# Altium footprint library PcbLib1.PcbLib: 20 footprints (part 1 of 2)
Each footprint in its own frame and in the unit in brackets; x right, y up, seen from the top. Pads: shape width x height; smd on the part's side, far side on the other; paste and mask are expansions set on the pad; w line width, h text height; cw(c..) or ccw(c..) is an arc to the next point about the centre after c.
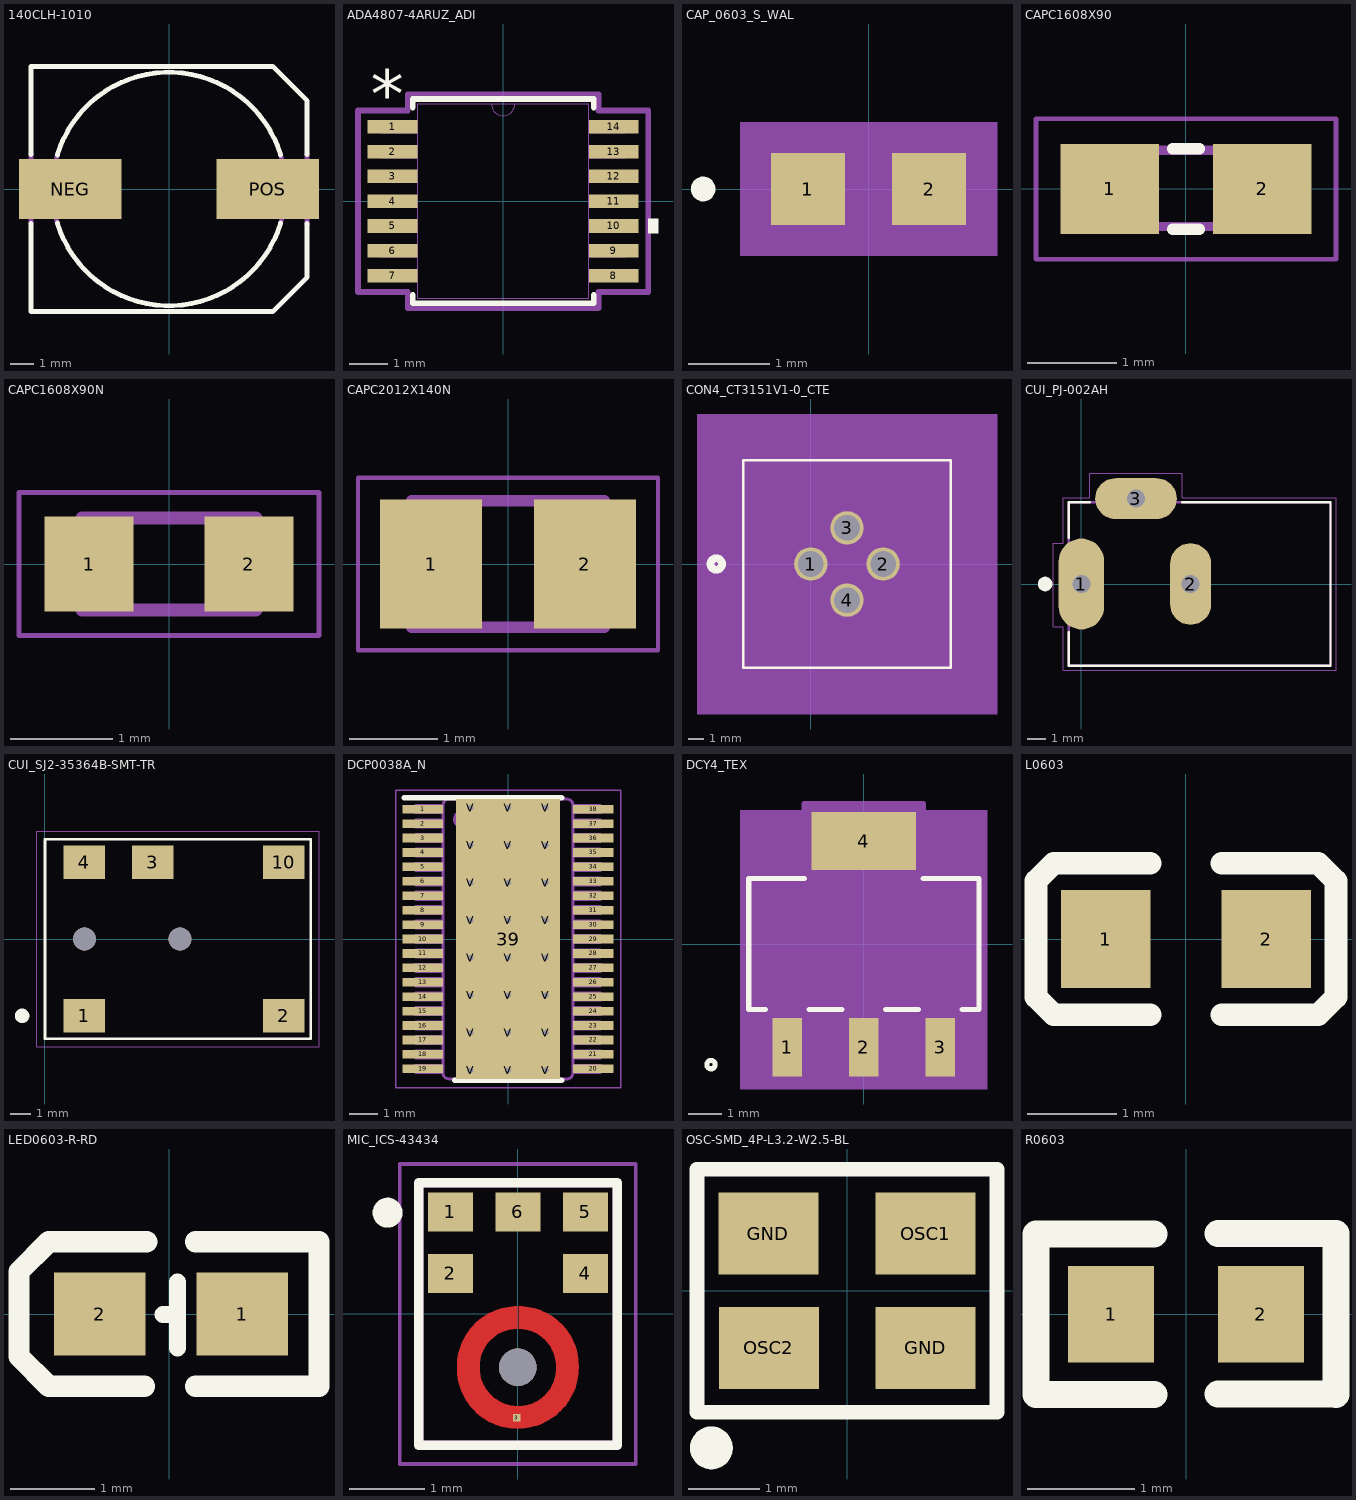
[diagram p0: the footprints below, top view; thin cyan lines are the x and y axes]

## 140CLH-1010 [mm]
pads (2):
  rect 4.3x2.5 smd: NEG(-4.15,0) POS(4.15,0)
Top Overlay:
  lines w0.203: -5.8,-1.45 -5.8,-5.15 4.35,-5.15 5.8,-3.7 5.8,-1.45 ; -5.8,1.45 -5.8,5.15 4.35,5.15 5.8,3.7 5.8,1.45 ; -4.69,-1.434 ccw(c0,0) 4.69,-1.434 ; -4.69,1.434 cw(c0,0) 4.69,1.434
Mechanical 13:
  lines w0.203: -5.8,-1.45 -5.8,1.45 ; -4.69,-1.434 cw(c0,0) -4.69,1.434 ; 4.69,-1.434 ccw(c0,0) 4.69,1.434 ; 5.8,-1.45 5.8,1.45

## ADA4807-4ARUZ_ADI [mil]
pads (14):
  rect 51.48x14 smd paste+0 mask+0: 1(-114.24,76.77) 2(-114.24,51.18) 3(-114.24,25.59) 4(-114.24,0) 5(-114.24,-25.59) 6(-114.24,-51.18) 7(-114.24,-76.77) 8(114.24,-76.77) 9(114.24,-51.18) 10(114.24,-25.59) 11(114.24,0) 12(114.24,25.59) 13(114.24,51.18) 14(114.24,76.77)
Top Overlay:
  region: 149.98,-18.09 159.98,-18.09 159.98,-33.09 149.98,-33.09
  lines w6: -93.5,-96.87 -93.5,-105.5 93.5,-105.5 93.5,-96.87 ; -93.5,96.87 -93.5,105.5 93.5,105.5 93.5,96.87
  text "*" at -136.74,85.77 h50
Mechanical 13:
  lines w0: -12,100.5 ccw(c0,100.5) 12,100.5
  lines w1: -125.98,-82.77 -125.98,-70.77 -88.5,-70.77 -88.5,-82.77 -125.98,-82.77 ; -125.98,-57.18 -125.98,-45.18 -88.5,-45.18 -88.5,-57.18 -125.98,-57.18 ; -125.98,-31.59 -125.98,-19.59 -88.5,-19.59 -88.5,-31.59 -125.98,-31.59 ; -125.98,-6 -125.98,6 -88.5,6 -88.5,-6 -125.98,-6 ; -125.98,19.59 -125.98,31.59 -88.5,31.59 -88.5,19.59 -125.98,19.59 ; -125.98,45.18 -125.98,57.18 -88.5,57.18 -88.5,45.18 -125.98,45.18 ; -125.98,70.77 -125.98,82.77 -88.5,82.77 -88.5,70.77 -125.98,70.77 ; -88.5,-100.5 88.5,-100.5 88.5,100.5 -88.5,100.5 -88.5,-100.5 ; 88.5,-82.77 88.5,-70.77 125.98,-70.77 125.98,-82.77 88.5,-82.77 ; 88.5,-57.18 88.5,-45.18 125.98,-45.18 125.98,-57.18 88.5,-57.18 ; 88.5,-31.59 88.5,-19.59 125.98,-19.59 125.98,-31.59 88.5,-31.59 ; 88.5,-6 88.5,6 125.98,6 125.98,-6 88.5,-6 ; 88.5,19.59 88.5,31.59 125.98,31.59 125.98,19.59 88.5,19.59 ; 88.5,45.18 88.5,57.18 125.98,57.18 125.98,45.18 88.5,45.18 ; 88.5,70.77 88.5,82.77 125.98,82.77 125.98,70.77 88.5,70.77
  text "*" at -86,47.5 h50
Mechanical 15:
  lines w6: -149.98,-93.77 -149.98,93.77 -98.5,93.77 -98.5,110.5 98.5,110.5 98.5,93.77 149.98,93.77 149.98,-93.77 98.5,-93.77 98.5,-110.5 -98.5,-110.5 -98.5,-93.77 -149.98,-93.77
3D body: height 10, standoff 0, extent 0,0 10,10

## CAP_0603_S_WAL [mil]
pads (2):
  rect 36x35 smd paste+0 mask+0: 1(-29.5,0) 2(29.5,0)
Top Overlay:
  circle w6: c-80.5,0 r3
Mechanical 5:
  region: 62.5,-32.5 -62.5,-32.5 -62.5,32.5 62.5,32.5
Mechanical 13:
  circle w0: c-23.5,0 r3
  lines w1: -33.5,-17.5 -33.5,17.5 ; -33.5,-17.5 -11.5,-17.5 -11.5,17.5 -33.5,17.5 ; -33.5,-17.5 33.5,-17.5 ; -33.5,-17.5 -33.5,17.5 ; -33.5,17.5 33.5,17.5 ; 33.5,-17.5 11.5,-17.5 11.5,17.5 33.5,17.5 ; 33.5,-17.5 33.5,17.5 ; 33.5,-17.5 33.5,17.5
Mechanical 15:
  region: 57.5,-27.5 -57.5,-27.5 -57.5,27.5 57.5,27.5
  lines w6: -57.5,-27.5 -57.5,27.5 57.5,27.5 57.5,-27.5 -57.5,-27.5
3D body: height 10, standoff 0, extent 0,0 10,10

## CAPC1608X90 [mm]
pads (2):
  rect 1.1x1 smd: 1(-0.85,0) 2(0.85,0)
Top Overlay:
  lines w0.127: -0.15,-0.45 0.15,-0.45 ; -0.15,0.45 0.15,0.45
Mechanical 13:
  region: 0.83,-0.471 0.331,-0.471 0.331,0.48 0.83,0.48
  region: -0.338,-0.47 -0.839,-0.47 -0.839,0.48 -0.338,0.48
  lines w0.102: -0.356,-0.419 0.356,-0.419 ; -0.356,0.432 0.356,0.432
Mechanical 15:
  lines w0.051: -1.673,-0.783 -1.673,0.783 1.673,0.783 1.673,-0.783 -1.673,-0.783

## CAPC1608X90N [mm]
pads (2):
  rect 0.87x0.93 smd: 1(-0.78,0) 2(0.78,0)
Mechanical 13:
  lines w0.127: -0.85,-0.45 0.85,-0.45 0.85,0.45 -0.85,0.45 -0.85,-0.45
Mechanical 15:
  lines w0.05: -1.465,-0.7 1.465,-0.7 1.465,0.7 -1.465,0.7 -1.465,-0.7

## CAPC2012X140N [mm]
pads (2):
  rect 1.16x1.47 smd: 1(-0.875,0) 2(0.875,0)
Mechanical 13:
  lines w0.127: -1.1,-0.72 -1.1,0.72 1.1,0.72 1.1,-0.72 -1.1,-0.72
Mechanical 15:
  lines w0.05: -1.708,-0.983 -1.708,0.983 1.708,0.983 1.708,-0.983 -1.708,-0.983

## CON4_CT3151V1-0_CTE [mil]
pads (4):
  round 87 hole 67: 1(0,0) 2(188,0) 3(94,94) 4(94,-94)
Top Overlay:
  circle w20: c-246,0 r15
  lines w6: -176,-270 -176,270 364,270 364,-270 -176,-270
Bottom Overlay:
  circle w20: c-246,0 r15
Mechanical 5:
  region: -296,390 484,390 484,-390 -296,-390
Mechanical 7:
  lines w1: -271,0 94,0 ; -271,94 94,94 ; -256,-50 -256,0 ; -256,144 -256,94 ; 0,-188 474,-188 ; 0,365 0,0 474,0 ; 188,0 188,365 ; -256,0 -251,-10 -261,-10 -256,0 ; -256,94 -251,104 -261,104 -256,94 ; 0,350 10,345 10,355 0,350 ; 0,350 188,350 ; 188,350 178,345 178,355 188,350 ; 459,-188 464,-178 454,-178 459,-188 ; 459,-188 459,0 ; 459,0 464,-10 454,-10 459,0
  text "0.188in/4.775mm" at -140.75,370 h25
Mechanical 13:
  circle w20: c0,75 r15
  lines w1: -171,-265 -171,265 359,265 359,-265 -171,-265
Mechanical 15:
  region: 369,275 -181,275 -181,-275 369,-275
  lines w6: -181,-275 369,-275 369,275 -181,275 -181,-275
3D body: height 10, standoff 0, extent 0,0 10,10

## CUI_PJ-002AH [mm]
pads (3):
  oval 2.5x5 hole 1 square: 1(0,0)
  oval 2.25x4.5 hole 1 square: 2(6,0)
  oval 4.5x2.25 hole 1 square: 3(3,4.7)
Top Overlay:
  circle w0.4: c-2,0 r0.2
  lines w0.127: -0.7,-2.65 -0.7,-4.5 13.7,-4.5 13.7,4.5 5.55,4.5 ; -0.7,2.55 -0.7,4.5 0.45,4.5
Mechanical 13:
  lines w0.127: -0.7,-4.5 -0.7,4.5 13.7,4.5 13.7,-4.5 -0.7,-4.5
Mechanical 15:
  lines w0.05: -1.55,-2.35 -1,-2.35 -1,-4.75 14,-4.75 14,4.75 5.55,4.75 5.55,6.1 0.45,6.1 0.45,4.75 -1,4.75 -1,2.25 -1.55,2.25 -1.55,-2.35

## CUI_SJ2-35364B-SMT-TR [mm]
pads (7):
  rect 2x1.6 smd: 1(1.9,-3.7) 2(11.5,-3.7) 3(5.2,3.7) 4(1.9,3.7) 10(11.5,3.7)
  round 1.1 hole 1.1 unplated: ""(1.9,0) ""(6.5,0)
Top Overlay:
  circle w0.4: c-1.1,-3.7 r0.15
  lines w0.127: 0,-4.8 12.8,-4.8 12.8,4.8 0,4.8 0,-4.8
Mechanical 15:
  lines w0.05: -0.4,-5.2 -0.4,5.2 13.2,5.2 13.2,-5.2 -0.4,-5.2

## DCP0038A_N [mm]
pads (63):
  rect 1.4x0.3 smd paste+0 mask+0: 1(-2.95,4.5) 2(-2.95,4) 3(-2.95,3.5) 4(-2.95,3) 5(-2.95,2.5) 6(-2.95,2) 7(-2.95,1.5) 8(-2.95,1) 9(-2.95,0.5) 10(-2.95,0) 11(-2.95,-0.5) 12(-2.95,-1) 13(-2.95,-1.5) 14(-2.95,-2) 15(-2.95,-2.5) 16(-2.95,-3) 17(-2.95,-3.5) 18(-2.95,-4) 19(-2.95,-4.5) 20(2.95,-4.5) 21(2.95,-4) 22(2.95,-3.5) 23(2.95,-3) 24(2.95,-2.5) 25(2.95,-2) 26(2.95,-1.5) 27(2.95,-1) 28(2.95,-0.5) 29(2.95,0) 30(2.95,0.5) 31(2.95,1) 32(2.95,1.5) 33(2.95,2) 34(2.95,2.5) 35(2.95,3) 36(2.95,3.5) 37(2.95,4) 38(2.95,4.5)
  rect 3.6x9.7 smd paste-4.837 mask-4.839: 39(0,0)
  round 0.5 hole 0.203 mask+0: V(-1.3,-4.55) V(-1.3,-3.25) V(-1.3,3.25) V(-1.3,4.55) V(0,-4.55) V(0,-3.25) V(0,-1.95) V(0,-0.65) V(0,0.65) V(0,1.95) V(0,3.25) V(0,4.55) V(1.3,-4.55) V(1.3,-3.25) V(1.3,3.25) V(1.3,4.55)
  round 0.5 hole 0.203 mask-0.152: V(-1.3,-1.95) V(-1.3,-0.65) V(-1.3,0.65) V(-1.3,1.95) V(1.3,-1.95) V(1.3,-0.65) V(1.3,0.65) V(1.3,1.95)
Top Overlay:
  lines w0.2: -3.6,4.9 1.85,4.9 ; -1.85,-4.9 1.85,-4.9
Top Paste:
  region: -1.449,-2.315 -1.45,-2.307 -1.45,2.307 -1.449,2.315 -1.447,2.323 -1.443,2.331 -1.437,2.337 -1.431,2.343 -1.423,2.347 -1.415,2.349 -1.406,2.35 1.406,2.35 1.415,2.349 1.423,2.347 1.431,2.343 1.437,2.337 1.443,2.331 1.447,2.323 1.449,2.315 1.45,2.307 1.45,-2.307 1.449,-2.315 1.447,-2.323 1.443,-2.331 1.437,-2.337 1.431,-2.343 1.423,-2.347 1.415,-2.349 1.406,-2.35 -1.406,-2.35 -1.415,-2.349 -1.423,-2.347 -1.431,-2.343 -1.437,-2.337 -1.443,-2.331 -1.447,-2.323
Top Solder:
  region: -1.449,-2.315 -1.45,-2.307 -1.45,2.307 -1.449,2.315 -1.447,2.323 -1.443,2.331 -1.437,2.337 -1.431,2.343 -1.423,2.347 -1.415,2.349 -1.406,2.35 1.406,2.35 1.415,2.349 1.423,2.347 1.431,2.343 1.437,2.337 1.443,2.331 1.447,2.323 1.449,2.315 1.45,2.307 1.45,-2.307 1.449,-2.315 1.447,-2.323 1.443,-2.331 1.437,-2.337 1.431,-2.343 1.423,-2.347 1.415,-2.349 1.406,-2.35 -1.406,-2.35 -1.415,-2.349 -1.423,-2.347 -1.431,-2.343 -1.437,-2.337 -1.443,-2.331 -1.447,-2.323
Mechanical 13:
  lines w0.1: -2.25,-4.625 -3.2,-4.625 -3.2,-4.375 -2.25,-4.375 ; -2.25,-4.125 -3.2,-4.125 -3.2,-3.875 -2.25,-3.875 ; -2.25,-3.625 -3.2,-3.625 -3.2,-3.375 -2.25,-3.375 ; -2.25,-3.125 -3.2,-3.125 -3.2,-2.875 -2.25,-2.875 ; -2.25,-2.625 -3.2,-2.625 -3.2,-2.375 -2.25,-2.375 ; -2.25,-2.125 -3.2,-2.125 -3.2,-1.875 -2.25,-1.875 ; -2.25,-1.625 -3.2,-1.625 -3.2,-1.375 -2.25,-1.375 ; -2.25,-1.125 -3.2,-1.125 -3.2,-0.875 -2.25,-0.875 ; -2.25,-0.625 -3.2,-0.625 -3.2,-0.375 -2.25,-0.375 ; -2.25,-0.125 -3.2,-0.125 -3.2,0.125 -2.25,0.125 ; -2.25,0.375 -3.2,0.375 -3.2,0.625 -2.25,0.625 ; -2.25,0.875 -3.2,0.875 -3.2,1.125 -2.25,1.125 ; -2.25,1.375 -3.2,1.375 -3.2,1.625 -2.25,1.625 ; -2.25,1.875 -3.2,1.875 -3.2,2.125 -2.25,2.125 ; -2.25,2.375 -3.2,2.375 -3.2,2.625 -2.25,2.625 ; -2.25,2.875 -3.2,2.875 -3.2,3.125 -2.25,3.125 ; -2.25,3.375 -3.2,3.375 -3.2,3.625 -2.25,3.625 ; -2.25,3.875 -3.2,3.875 -3.2,4.125 -2.25,4.125 ; -2.25,4.375 -3.2,4.375 -3.2,4.625 -2.25,4.625 ; 2.25,-4.625 3.2,-4.625 3.2,-4.375 2.25,-4.375 ; 2.25,-4.125 3.2,-4.125 3.2,-3.875 2.25,-3.875 ; 2.25,-3.625 3.2,-3.625 3.2,-3.375 2.25,-3.375 ; 2.25,-3.125 3.2,-3.125 3.2,-2.875 2.25,-2.875 ; 2.25,-2.625 3.2,-2.625 3.2,-2.375 2.25,-2.375 ; 2.25,-2.125 3.2,-2.125 3.2,-1.875 2.25,-1.875 ; 2.25,-1.625 3.2,-1.625 3.2,-1.375 2.25,-1.375 ; 2.25,-1.125 3.2,-1.125 3.2,-0.875 2.25,-0.875 ; 2.25,-0.625 3.2,-0.625 3.2,-0.375 2.25,-0.375 ; 2.25,-0.125 3.2,-0.125 3.2,0.125 2.25,0.125 ; 2.25,0.375 3.2,0.375 3.2,0.625 2.25,0.625 ; 2.25,0.875 3.2,0.875 3.2,1.125 2.25,1.125 ; 2.25,1.375 3.2,1.375 3.2,1.625 2.25,1.625 ; 2.25,1.875 3.2,1.875 3.2,2.125 2.25,2.125 ; 2.25,2.375 3.2,2.375 3.2,2.625 2.25,2.625 ; 2.25,2.875 3.2,2.875 3.2,3.125 2.25,3.125 ; 2.25,3.375 3.2,3.375 3.2,3.625 2.25,3.625 ; 2.25,3.875 3.2,3.875 3.2,4.125 2.25,4.125 ; 2.25,4.375 3.2,4.375 3.2,4.625 2.25,4.625 ; -2.25,-4.69 -2.23,-4.74 -2.2,-4.78 -2.16,-4.82 -2.11,-4.84 -2.05,-4.85 2.05,-4.85 2.07,-4.85 2.11,-4.84 2.16,-4.82 2.19,-4.79 2.21,-4.76 2.24,-4.71 2.25,-4.65 2.25,4.65 2.25,4.67 2.24,4.72 2.21,4.77 2.17,4.81 2.11,4.84 2.05,4.85 -2.05,4.85 -2.08,4.85 -2.13,4.83 -2.19,4.8 -2.22,4.76 -2.24,4.71 -2.25,4.65 -2.25,-4.65 -2.25,-4.69 ; -1.852,4.15 cw(c-1.552,4.15) -1.252,4.15 cw(c-1.552,4.15) -1.852,4.15
Mechanical 15:
  lines w0.05: -3.9,-5.15 -3.9,5.15 3.9,5.15 3.9,-5.15 -3.9,-5.15
  lines w0.1: -0.5,0 0.5,0 ; 0,-0.5 0,0.5
3D body: height 0.25, standoff 0, extent 0,0 0.254,0.254

## DCY4_TEX [mil]
pads (4):
  rect 35x69.5 smd: 1(-91,-122.75) 2(0,-122.75) 3(91,-122.75)
  rect 124x69.5 smd: 4(0,122.75)
Top Overlay:
  circle w6: c-182,-143.5 r5
  lines w6: -116.96,-78 -137,-78 -137,78 -70.46,78 ; -65.04,-78 -25.96,-78 ; 25.96,-78 65.04,-78 ; 70.46,78 137,78 137,-78 116.96,-78
Mechanical 5:
  region: -147,159.5 147,159.5 147,-172.5 -147,-172.5
Mechanical 13:
  circle w0: c-122,-63 r5
  lines w1: -132,-73 -132,73 132,73 132,-73 -132,-73 ; -107.5,-143.5 -74.5,-143.5 -74.5,-73 -107.5,-73 -107.5,-143.5 ; -61,73 -61,143.5 61,143.5 61,73 -61,73 ; -16.5,-143.5 16.5,-143.5 16.5,-73 -16.5,-73 -16.5,-143.5 ; 74.5,-143.5 107.5,-143.5 107.5,-73 74.5,-73 74.5,-143.5
Mechanical 15:
  region: -142,-83 -142,83 -71,83 -71,167.5 71,167.5 71,83 142,83 142,-83 117.5,-83 117.5,-167.5 -117.5,-167.5 -117.5,-83
  lines w6: -142,-83 -117.5,-83 -117.5,-167.5 117.5,-167.5 117.5,-83 142,-83 142,83 71,83 71,167.5 -71,167.5 -71,83 -142,83 -142,-83
3D body: height 10, standoff 0, extent 0,0 10,10

## L0603 [mm]
pads (2):
  rect 1x1.1 smd: 1(-0.9,0) 2(0.9,0)
Top Overlay:
  lines w0.254: -0.4,-0.85 -1.48,-0.85 -1.68,-0.65 -1.68,-0.62 -1.68,0.62 -1.68,0.65 -1.48,0.85 -0.4,0.85 ; 0.4,-0.85 1.48,-0.85 1.68,-0.65 1.68,-0.62 1.68,0.62 1.68,0.65 1.48,0.85 0.4,0.85

## LED0603-R-RD [mil]
pads (2):
  rect 43x39 smd: 1(34.5,0) 2(-32.5,0)
Top Overlay:
  lines w7.99: -2.9,-0.31 4,-0.31 ; 4,-16 4,15
  lines w10: -11.5,-34 -56.5,-34 -70.5,-20 -70.5,20 -56.5,34 -10.5,34 ; 12.5,-34 70.5,-34 70.5,34 12.5,34

## MIC_ICS-43434 [mm]
pads (7):
  rect 0.6x0.522 smd paste-1: 1(-0.9,1.361) 2(-0.9,0.539) 4(0.9,0.539) 5(0.9,1.361) 6(0,1.361)
  rect 0.1x0.1 smd paste-1 mask+0: 3(-0.015,-1.383)
  round 0.5 hole 0.5 unplated: ""(0,-0.713)
Top Layer:
  region: 249 vertices and 0 holes, not listed, extent -0.81,-1.53 0.81,0.1
Top Overlay:
  circle w0.2: c-1.737,1.35 r0.1
  lines w0.127: -1.325,-1.75 1.325,-1.75 1.325,1.75 -1.325,1.75 -1.325,-1.75
Top Paste:
  drawing of 9 lines, arcs and shapes, not listed
Top Solder:
  circle w0.5: c0,-0.713 r0.665
Mechanical 13:
  lines w0.127: -1.325,-1.753 -1.325,1.747 1.325,1.747 1.325,-1.753 -1.325,-1.753
Mechanical 15:
  lines w0.05: -1.575,-2.003 -1.575,2 1.575,2 1.575,-2.003 -1.575,-2.003

## OSC-SMD_4P-L3.2-W2.5-BL [mm]
pads (4):
  rect 1.4x1.15 smd: GND(-1.1,0.8) GND(1.1,-0.8) OSC1(1.1,0.8) OSC2(-1.092,-0.8)
Top Overlay:
  lines w0.203: -2.1,-1.7 2.1,-1.7 2.1,1.7 -2.1,1.7 -2.1,-1.7
  lines w0.3: -1.9,-2.05 ccw(c-1.899,-2.2) -1.897,-2.05

## R0603 [mm]
pads (2):
  rect 0.8x0.9 smd: 1(-0.7,0) 2(0.7,0)
Top Overlay:
  lines w0.254: -1.401,-0.75 -0.3,-0.75 ; -1.401,0.75 -0.3,0.75 ; -1.4,-0.75 -1.4,0.75 ; 0.301,-0.745 1.401,-0.745 ; 0.301,0.755 1.401,0.755 ; 1.401,-0.75 1.401,0.75